# Altium integrated library Capacitor - Aluminium TH.IntLib: 4591 symbols (part 52 of 68)
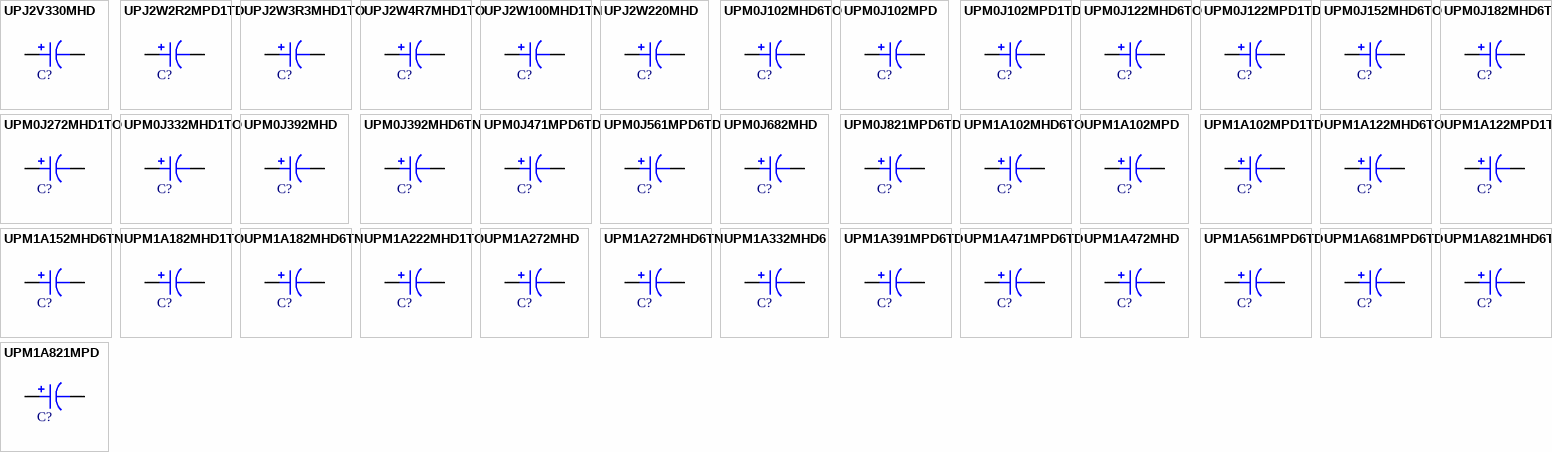
[diagram p165: symbols UPJ2V330MHD to UPM1A821MPD]

## UPM1A272MHD
designator C?, comment 2700uF  (value not drawn)
CAP ALUM 2700UF 20% 10V RADIAL; Part Number: UPM1A272MHD; Manufacturer: Nichicon; TemperatureRange: -55C ~ 105C; Type: Polar; Ripple Current: 1.78A @ 120Hz; Impedance: 30 mOhm; Value: 2700uF; PartId: 24271; Supplier 1: Digi-Key; Supplier Part Number 1: 493-5587-ND; ComponentLink1Description: Datasheet; ComponentLink1URL: http://nichicon-us.com/english/products/pdfs/e-upm.pdf; ComponentLink2Description: Digi-Key Listing; ComponentLink2URL: https://www.digikey.com/product-detail/en/nichicon/UPM1A272MHD/493-5587-ND/2599505; Tolerance: 20%; Voltage: 10V; Price: 1.06; Device Package: Radial, Can, 12.5mm
footprint CAP AL TH D12.5 L5 H35.5
pins: 1, 2

## UPM1A272MHD6TN
designator C?, comment 2700uF  (value not drawn)
CAP ALUM 2700UF 20% 10V RADIAL; Part Number: UPM1A272MHD6TN; Manufacturer: Nichicon; TemperatureRange: -55C ~ 105C; Type: Polar; Ripple Current: 1.56A @ 120Hz; Impedance: 35 mOhm; Value: 2700uF; PartId: 26352; Supplier 1: Digi-Key; Supplier Part Number 1: 493-5205-3-ND; ComponentLink1Description: Datasheet; ComponentLink1URL: http://nichicon-us.com/english/products/pdfs/e-upm.pdf; ComponentLink2Description: Digi-Key Listing; ComponentLink2URL: https://www.digikey.com/product-detail/en/nichicon/UPM1A272MHD6TN/493-5205-3-ND/3130210; Tolerance: 20%; Voltage: 10V; Price: 0.5061; Device Package: Radial, Can, 16mm
footprint CAP AL TH D16 L7.5 H22
pins: 1, 2

## UPM1A332MHD6
designator C?, comment 3300uF  (value not drawn)
CAP ALUM 3300UF 20% 10V RADIAL; Part Number: UPM1A332MHD6; Manufacturer: Nichicon; TemperatureRange: -55C ~ 105C; Type: Polar; Ripple Current: 1.66A @ 120Hz; Impedance: 31 mOhm; Value: 3300uF; PartId: 26417; Supplier 1: Digi-Key; Supplier Part Number 1: UPM1A332MHD6-ND; ComponentLink1Description: Datasheet; ComponentLink1URL: http://nichicon-us.com/english/products/pdfs/e-upm.pdf; ComponentLink2Description: Digi-Key Listing; ComponentLink2URL: https://www.digikey.com/product-detail/en/nichicon/UPM1A332MHD6/UPM1A332MHD6-ND/2428089; Tolerance: 20%; Voltage: 10V; Price: 1.1; Device Package: Radial, Can, 16mm
footprint CAP AL TH D16 L7.5 H22
pins: 1, 2

## UPM1A391MPD6TD
designator C?, comment 390uF  (value not drawn)
CAP ALUM 390UF 20% 10V RADIAL; Part Number: UPM1A391MPD6TD; Manufacturer: Nichicon; TemperatureRange: -55C ~ 105C; Type: Polar; Ripple Current: 490mA @ 120Hz; Impedance: 150 mOhm; Value: 390uF; PartId: 24864; Supplier 1: Digi-Key; Supplier Part Number 1: 493-11773-1-ND; ComponentLink1Description: Datasheet; ComponentLink1URL: http://nichicon-us.com/english/products/pdfs/e-upm.pdf; ComponentLink2Description: Digi-Key Listing; ComponentLink2URL: https://www.digikey.com/product-detail/en/nichicon/UPM1A391MPD6TD/493-11773-1-ND/4319551; Tolerance: 20%; Voltage: 10V; Price: 0.47; Device Package: Radial, Can, 10mm
footprint CAP AL TH D10 L5 H14.5
pins: 1, 2

## UPM1A471MPD6TD
designator C?, comment 470uF  (value not drawn)
CAP ALUM 470UF 20% 10V RADIAL; Part Number: UPM1A471MPD6TD; Manufacturer: Nichicon; TemperatureRange: -55C ~ 105C; Type: Polar; Ripple Current: 535mA @ 120Hz; Impedance: 130 mOhm; Value: 470uF; PartId: 24607; Supplier 1: Digi-Key; Supplier Part Number 1: 493-11885-3-ND; ComponentLink1Description: Datasheet; ComponentLink1URL: http://nichicon-us.com/english/products/pdfs/e-upm.pdf; ComponentLink2Description: Digi-Key Listing; ComponentLink2URL: https://www.digikey.com/product-detail/en/nichicon/UPM1A471MPD6TD/493-11885-3-ND/4321028; Tolerance: 20%; Voltage: 10V; Price: 0.1854; Device Package: Radial, Can, 10mm
footprint CAP AL TH D10 L5 H14.5
pins: 1, 2

## UPM1A472MHD
designator C?, comment 4700uF  (value not drawn)
CAP ALUM 4700UF 20% 10V RADIAL; Part Number: UPM1A472MHD; Manufacturer: Nichicon; TemperatureRange: -55C ~ 105C; Type: Polar; Ripple Current: 2.17A @ 120Hz; Impedance: 23 mOhm; Value: 4700uF; PartId: 27047; Supplier 1: Digi-Key; Supplier Part Number 1: 493-5590-ND; ComponentLink1Description: Datasheet; ComponentLink1URL: http://nichicon-us.com/english/products/pdfs/e-upm.pdf; ComponentLink2Description: Digi-Key Listing; ComponentLink2URL: https://www.digikey.com/product-detail/en/nichicon/UPM1A472MHD/493-5590-ND/2599515; Tolerance: 20%; Voltage: 10V; Price: 1.55; Device Package: Radial, Can, 16mm
footprint CAP AL TH D16 L7.5 H33.5
pins: 1, 2

## UPM1A561MPD6TD
designator C?, comment 560uF  (value not drawn)
CAP ALUM 560UF 20% 10V RADIAL; Part Number: UPM1A561MPD6TD; Manufacturer: Nichicon; TemperatureRange: -55C ~ 105C; Type: Polar; Ripple Current: 570mA @ 120Hz; Impedance: 110 mOhm; Value: 560uF; PartId: 25041; Supplier 1: Digi-Key; Supplier Part Number 1: 493-5210-3-ND; ComponentLink1Description: Datasheet; ComponentLink1URL: http://nichicon-us.com/english/products/pdfs/e-upm.pdf; ComponentLink2Description: Digi-Key Listing; ComponentLink2URL: https://www.digikey.com/product-detail/en/nichicon/UPM1A561MPD6TD/493-5210-3-ND/3130215; Tolerance: 20%; Voltage: 10V; Price: 0.1864; Device Package: Radial, Can, 10mm
footprint CAP AL TH D10 L5 H17.5
pins: 1, 2

## UPM1A681MPD6TD
designator C?, comment 680uF  (value not drawn)
CAP ALUM 680UF 20% 10V RADIAL; Part Number: UPM1A681MPD6TD; Manufacturer: Nichicon; TemperatureRange: -55C ~ 105C; Type: Polar; Ripple Current: 685mA @ 120Hz; Impedance: 90 mOhm; Value: 680uF; PartId: 25010; Supplier 1: Digi-Key; Supplier Part Number 1: 493-5213-3-ND; ComponentLink1Description: Datasheet; ComponentLink1URL: http://nichicon-us.com/english/products/pdfs/e-upm.pdf; ComponentLink2Description: Digi-Key Listing; ComponentLink2URL: https://www.digikey.com/product-detail/en/nichicon/UPM1A681MPD6TD/493-5213-3-ND/3130218; Tolerance: 20%; Voltage: 10V; Price: 0.156; Device Package: Radial, Can, 10mm
footprint CAP AL TH D10 L5 H17.5
pins: 1, 2

## UPM1A821MHD6TO
designator C?, comment 820uF  (value not drawn)
CAP ALUM 820UF 20% 10V RADIAL; Part Number: UPM1A821MHD6TO; Manufacturer: Nichicon; TemperatureRange: -55C ~ 105C; Type: Polar; Ripple Current: 780mA @ 120Hz; Impedance: 80 mOhm; Value: 820uF; PartId: 22815; Supplier 1: Digi-Key; Supplier Part Number 1: 493-5215-1-ND; ComponentLink1Description: Datasheet; ComponentLink1URL: http://nichicon-us.com/english/products/pdfs/e-upm.pdf; ComponentLink2Description: Digi-Key Listing; ComponentLink2URL: https://www.digikey.com/product-detail/en/nichicon/UPM1A821MHD6TO/493-5215-1-ND/3129552; Tolerance: 20%; Voltage: 10V; Price: 0; Device Package: Radial, Can, 12.5mm
footprint CAP AL TH D12.5 L5 H17.5
pins: 1, 2

## UPM1A821MPD
designator C?, comment 820uF  (value not drawn)
CAP ALUM 820UF 20% 10V RADIAL; Part Number: UPM1A821MPD; Manufacturer: Nichicon; TemperatureRange: -55C ~ 105C; Type: Polar; Ripple Current: 835mA @ 120Hz; Impedance: 70 mOhm; Value: 820uF; PartId: 25925; Supplier 1: Digi-Key; Supplier Part Number 1: 493-14374-ND; ComponentLink1Description: Datasheet; ComponentLink1URL: http://nichicon-us.com/english/products/pdfs/e-upm.pdf; ComponentLink2Description: Digi-Key Listing; ComponentLink2URL: https://www.digikey.com/product-detail/en/nichicon/UPM1A821MPD/493-14374-ND/2599528; Tolerance: 20%; Voltage: 10V; Price: 0.72; Device Package: Radial, Can, 10mm
footprint CAP AL TH D10 L5 H22
pins: 1, 2

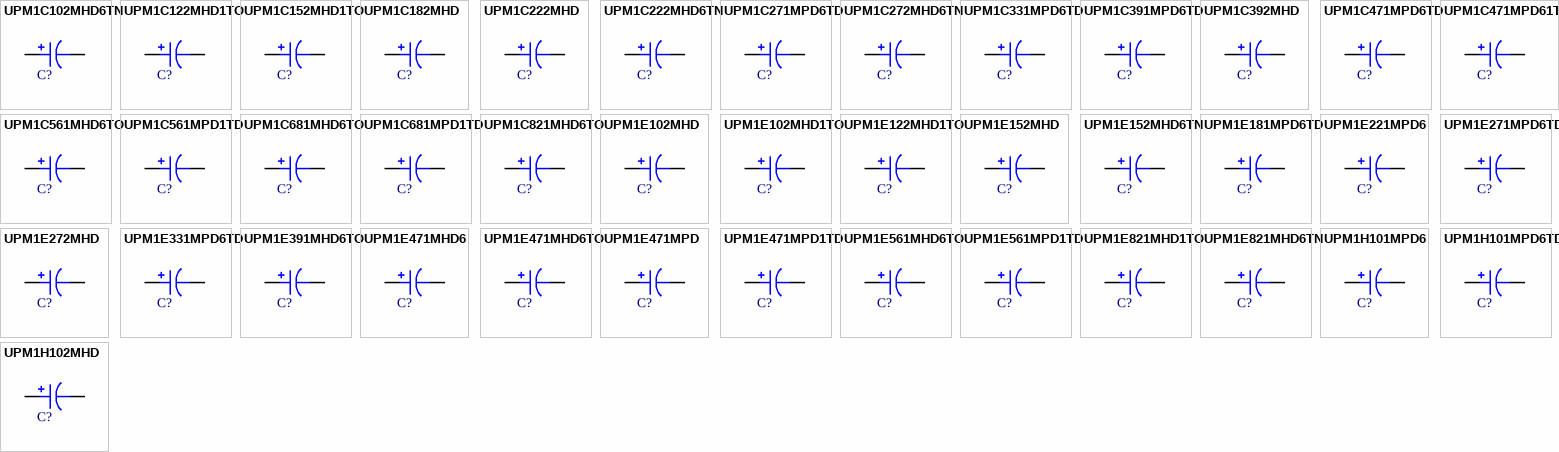
[diagram p86: symbols UPM1C102MHD6TN to UPM1H102MHD]

## UPM1C102MHD6TN
designator C?, comment 1000uF  (value not drawn)
CAP ALUM 1000UF 20% 16V RADIAL; Part Number: UPM1C102MHD6TN; Manufacturer: Nichicon; TemperatureRange: -55C ~ 105C; Type: Polar; Ripple Current: 1.1A @ 120Hz; Impedance: 55 mOhm; Value: 1000uF; PartId: 26246; Supplier 1: Digi-Key; Supplier Part Number 1: 493-12170-3-ND; ComponentLink1Description: Datasheet; ComponentLink1URL: http://nichicon-us.com/english/products/pdfs/e-upm.pdf; ComponentLink2Description: Digi-Key Listing; ComponentLink2URL: https://www.digikey.com/product-detail/en/nichicon/UPM1C102MHD6TN/493-12170-3-ND/4321313; Tolerance: 20%; Voltage: 16V; Price: 0.5056; Device Package: Radial, Can, 16mm
footprint CAP AL TH D16 L7.5 H16.5
pins: 1, 2

## UPM1C122MHD1TO
designator C?, comment 1200uF  (value not drawn)
CAP ALUM 1200UF 20% 16V RADIAL; Part Number: UPM1C122MHD1TO; Manufacturer: Nichicon; TemperatureRange: -55C ~ 105C; Type: Polar; Ripple Current: 1.25A @ 120Hz; Impedance: 41 mOhm; Value: 1200uF; PartId: 23156; Supplier 1: Digi-Key; Supplier Part Number 1: 493-5216-3-ND; ComponentLink1Description: Datasheet; ComponentLink1URL: http://nichicon-us.com/english/products/pdfs/e-upm.pdf; ComponentLink2Description: Digi-Key Listing; ComponentLink2URL: https://www.digikey.com/product-detail/en/nichicon/UPM1C122MHD1TO/493-5216-3-ND/3130221; Tolerance: 20%; Voltage: 16V; Price: 0.3119; Device Package: Radial, Can, 12.5mm
footprint CAP AL TH D12.5 L5 H22
pins: 1, 2

## UPM1C152MHD1TO
designator C?, comment 1500uF  (value not drawn)
CAP ALUM 1500UF 20% 16V RADIAL; Part Number: UPM1C152MHD1TO; Manufacturer: Nichicon; TemperatureRange: -55C ~ 105C; Type: Polar; Ripple Current: 1.53A @ 120Hz; Impedance: 36 mOhm; Value: 1500uF; PartId: 23918; Supplier 1: Digi-Key; Supplier Part Number 1: 493-12092-1-ND; ComponentLink1Description: Datasheet; ComponentLink1URL: http://nichicon-us.com/english/products/pdfs/e-upm.pdf; ComponentLink2Description: Digi-Key Listing; ComponentLink2URL: https://www.digikey.com/product-detail/en/nichicon/UPM1C152MHD1TO/493-12092-1-ND/4319558; Tolerance: 20%; Voltage: 16V; Price: 0.94; Device Package: Radial, Can, 12.5mm
footprint CAP AL TH D12.5 L5 H27
pins: 1, 2

## UPM1C182MHD
designator C?, comment 1800uF  (value not drawn)
CAP ALUM 1800UF 20% 16V RADIAL; Part Number: UPM1C182MHD; Manufacturer: Nichicon; TemperatureRange: -55C ~ 105C; Type: Polar; Ripple Current: 1.69A @ 120Hz; Impedance: 32 mOhm; Value: 1800uF; PartId: 24257; Supplier 1: Digi-Key; Supplier Part Number 1: 493-5596-ND; ComponentLink1Description: Datasheet; ComponentLink1URL: http://nichicon-us.com/english/products/pdfs/e-upm.pdf; ComponentLink2Description: Digi-Key Listing; ComponentLink2URL: https://www.digikey.com/product-detail/en/nichicon/UPM1C182MHD/493-5596-ND/2599540; Tolerance: 20%; Voltage: 16V; Price: 1.03; Device Package: Radial, Can, 12.5mm
footprint CAP AL TH D12.5 L5 H35.5
pins: 1, 2

## UPM1C222MHD
designator C?, comment 2200uF  (value not drawn)
CAP ALUM 2200UF 20% 16V RADIAL; Part Number: UPM1C222MHD; Manufacturer: Nichicon; TemperatureRange: -55C ~ 105C; Type: Polar; Ripple Current: 1.8A @ 120Hz; Impedance: 28 mOhm; Value: 2200uF; PartId: 24265; Supplier 1: Digi-Key; Supplier Part Number 1: 493-11117-ND; ComponentLink1Description: Datasheet; ComponentLink1URL: http://nichicon-us.com/english/products/pdfs/e-upm.pdf; ComponentLink2Description: Digi-Key Listing; ComponentLink2URL: https://www.digikey.com/product-detail/en/nichicon/UPM1C222MHD/493-11117-ND/2599543; Tolerance: 20%; Voltage: 16V; Price: 1.04; Device Package: Radial, Can, 12.5mm
footprint CAP AL TH D12.5 L5 H35.5
pins: 1, 2

## UPM1C222MHD6TN
designator C?, comment 2200uF  (value not drawn)
CAP ALUM 2200UF 20% 16V RADIAL; Part Number: UPM1C222MHD6TN; Manufacturer: Nichicon; TemperatureRange: -55C ~ 105C; Type: Polar; Ripple Current: 1.62A @ 120Hz; Impedance: 33 mOhm; Value: 2200uF; PartId: 26369; Supplier 1: Digi-Key; Supplier Part Number 1: 493-5221-3-ND; ComponentLink1Description: Datasheet; ComponentLink1URL: http://nichicon-us.com/english/products/pdfs/e-upm.pdf; ComponentLink2Description: Digi-Key Listing; ComponentLink2URL: https://www.digikey.com/product-detail/en/nichicon/UPM1C222MHD6TN/493-5221-3-ND/3130226; Tolerance: 20%; Voltage: 16V; Price: 0.5728; Device Package: Radial, Can, 16mm
footprint CAP AL TH D16 L7.5 H22
pins: 1, 2

## UPM1C271MPD6TD
designator C?, comment 270uF  (value not drawn)
CAP ALUM 270UF 20% 16V RADIAL; Part Number: UPM1C271MPD6TD; Manufacturer: Nichicon; TemperatureRange: -55C ~ 105C; Type: Polar; Ripple Current: 470mA @ 120Hz; Impedance: 140 mOhm; Value: 270uF; PartId: 24813; Supplier 1: Digi-Key; Supplier Part Number 1: 493-5222-1-ND; ComponentLink1Description: Datasheet; ComponentLink1URL: http://nichicon-us.com/english/products/pdfs/e-upm.pdf; ComponentLink2Description: Digi-Key Listing; ComponentLink2URL: https://www.digikey.com/product-detail/en/nichicon/UPM1C271MPD6TD/493-5222-1-ND/3129559; Tolerance: 20%; Voltage: 16V; Price: 0.45; Device Package: Radial, Can, 10mm
footprint CAP AL TH D10 L5 H14.5
pins: 1, 2

## UPM1C272MHD6TN
designator C?, comment 2700uF  (value not drawn)
CAP ALUM 2700UF 20% 16V RADIAL; Part Number: UPM1C272MHD6TN; Manufacturer: Nichicon; TemperatureRange: -55C ~ 105C; Type: Polar; Ripple Current: 1.97A @ 120Hz; Impedance: 30 mOhm; Value: 2700uF; PartId: 26756; Supplier 1: Digi-Key; Supplier Part Number 1: 493-5223-3-ND; ComponentLink1Description: Datasheet; ComponentLink1URL: http://nichicon-us.com/english/products/pdfs/e-upm.pdf; ComponentLink2Description: Digi-Key Listing; ComponentLink2URL: https://www.digikey.com/product-detail/en/nichicon/UPM1C272MHD6TN/493-5223-3-ND/3130228; Tolerance: 20%; Voltage: 16V; Price: 0.5742; Device Package: Radial, Can, 16mm
footprint CAP AL TH D16 L7.5 H27
pins: 1, 2

## UPM1C331MPD6TD
designator C?, comment 330uF  (value not drawn)
CAP ALUM 330UF 20% 16V RADIAL; Part Number: UPM1C331MPD6TD; Manufacturer: Nichicon; TemperatureRange: -55C ~ 105C; Type: Polar; Ripple Current: 510mA @ 120Hz; Impedance: 120 mOhm; Value: 330uF; PartId: 24526; Supplier 1: Digi-Key; Supplier Part Number 1: 493-11715-3-ND; ComponentLink1Description: Datasheet; ComponentLink1URL: http://nichicon-us.com/english/products/pdfs/e-upm.pdf; ComponentLink2Description: Digi-Key Listing; ComponentLink2URL: https://www.digikey.com/product-detail/en/nichicon/UPM1C331MPD6TD/493-11715-3-ND/4320858; Tolerance: 20%; Voltage: 16V; Price: 0.1417; Device Package: Radial, Can, 10mm
footprint CAP AL TH D10 L5 H14.5
pins: 1, 2

## UPM1C391MPD6TD
designator C?, comment 390uF  (value not drawn)
CAP ALUM 390UF 20% 16V RADIAL; Part Number: UPM1C391MPD6TD; Manufacturer: Nichicon; TemperatureRange: -55C ~ 105C; Type: Polar; Ripple Current: 570mA @ 120Hz; Impedance: 100 mOhm; Value: 390uF; PartId: 25039; Supplier 1: Digi-Key; Supplier Part Number 1: 493-5226-3-ND; ComponentLink1Description: Datasheet; ComponentLink1URL: http://nichicon-us.com/english/products/pdfs/e-upm.pdf; ComponentLink2Description: Digi-Key Listing; ComponentLink2URL: https://www.digikey.com/product-detail/en/nichicon/UPM1C391MPD6TD/493-5226-3-ND/3130231; Tolerance: 20%; Voltage: 16V; Price: 0.1858; Device Package: Radial, Can, 10mm
footprint CAP AL TH D10 L5 H17.5
pins: 1, 2

## UPM1C392MHD
designator C?, comment 3900uF  (value not drawn)
CAP ALUM 3900UF 20% 16V RADIAL; Part Number: UPM1C392MHD; Manufacturer: Nichicon; TemperatureRange: -55C ~ 105C; Type: Polar; Ripple Current: 2.25A @ 120Hz; Impedance: 22 mOhm; Value: 3900uF; PartId: 27143; Supplier 1: Digi-Key; Supplier Part Number 1: 493-5598-ND; ComponentLink1Description: Datasheet; ComponentLink1URL: http://nichicon-us.com/english/products/pdfs/e-upm.pdf; ComponentLink2Description: Digi-Key Listing; ComponentLink2URL: https://www.digikey.com/product-detail/en/nichicon/UPM1C392MHD/493-5598-ND/2599555; Tolerance: 20%; Voltage: 16V; Price: 1.81; Device Package: Radial, Can, 16mm
footprint CAP AL TH D16 L7.5 H33.5
pins: 1, 2

## UPM1C471MPD6TD
designator C?, comment 470uF  (value not drawn)
CAP ALUM 470UF 20% 16V RADIAL; Part Number: UPM1C471MPD6TD; Manufacturer: Nichicon; TemperatureRange: -55C ~ 105C; Type: Polar; Ripple Current: 660mA @ 120Hz; Impedance: 90 mOhm; Value: 470uF; PartId: 24996; Supplier 1: Digi-Key; Supplier Part Number 1: 493-11774-3-ND; ComponentLink1Description: Datasheet; ComponentLink1URL: http://nichicon-us.com/english/products/pdfs/e-upm.pdf; ComponentLink2Description: Digi-Key Listing; ComponentLink2URL: https://www.digikey.com/product-detail/en/nichicon/UPM1C471MPD6TD/493-11774-3-ND/4320917; Tolerance: 20%; Voltage: 16V; Price: 0.1438; Device Package: Radial, Can, 10mm
footprint CAP AL TH D10 L5 H17.5
pins: 1, 2

## UPM1C471MPD61TD
designator C?, comment 470uF  (value not drawn)
CAP ALUM 470UF 20% 16V RADIAL; Part Number: UPM1C471MPD61TD; Manufacturer: Nichicon; TemperatureRange: -55C ~ 105C; Type: Polar; Ripple Current: 660mA @ 120Hz; Impedance: 90 mOhm; Value: 470uF; PartId: 24997; Supplier 1: Digi-Key; Supplier Part Number 1: 493-7392-2-ND; ComponentLink1Description: Datasheet; ComponentLink1URL: http://nichicon-us.com/english/products/pdfs/e-upm.pdf; ComponentLink2Description: Digi-Key Listing; ComponentLink2URL: https://www.digikey.com/product-detail/en/nichicon/UPM1C471MPD61TD/493-7392-2-ND/3768694; Tolerance: 20%; Voltage: 16V; Price: 0.1438; Device Package: Radial, Can, 10mm
footprint CAP AL TH D10 L5 H17.5
pins: 1, 2

## UPM1C561MHD6TO
designator C?, comment 560uF  (value not drawn)
CAP ALUM 560UF 20% 16V RADIAL; Part Number: UPM1C561MHD6TO; Manufacturer: Nichicon; TemperatureRange: -55C ~ 105C; Type: Polar; Ripple Current: 750mA @ 120Hz; Impedance: 80 mOhm; Value: 560uF; PartId: 22797; Supplier 1: Digi-Key; Supplier Part Number 1: 493-5228-1-ND; ComponentLink1Description: Datasheet; ComponentLink1URL: http://nichicon-us.com/english/products/pdfs/e-upm.pdf; ComponentLink2Description: Digi-Key Listing; ComponentLink2URL: https://www.digikey.com/product-detail/en/nichicon/UPM1C561MHD6TO/493-5228-1-ND/3129565; Tolerance: 20%; Voltage: 16V; Price: 0; Device Package: Radial, Can, 12.5mm
footprint CAP AL TH D12.5 L5 H17.5
pins: 1, 2

## UPM1C561MPD1TD
designator C?, comment 560uF  (value not drawn)
CAP ALUM 560UF 20% 16V RADIAL; Part Number: UPM1C561MPD1TD; Manufacturer: Nichicon; TemperatureRange: -55C ~ 105C; Type: Polar; Ripple Current: 775mA @ 120Hz; Impedance: 75 mOhm; Value: 560uF; PartId: 25779; Supplier 1: Digi-Key; Supplier Part Number 1: 493-5229-3-ND; ComponentLink1Description: Datasheet; ComponentLink1URL: http://nichicon-us.com/english/products/pdfs/e-upm.pdf; ComponentLink2Description: Digi-Key Listing; ComponentLink2URL: https://www.digikey.com/product-detail/en/nichicon/UPM1C561MPD1TD/493-5229-3-ND/3130234; Tolerance: 20%; Voltage: 16V; Price: 0.2458; Device Package: Radial, Can, 10mm
footprint CAP AL TH D10 L5 H22
pins: 1, 2

## UPM1C681MHD6TO
designator C?, comment 680uF  (value not drawn)
CAP ALUM 680UF 20% 16V RADIAL; Part Number: UPM1C681MHD6TO; Manufacturer: Nichicon; TemperatureRange: -55C ~ 105C; Type: Polar; Ripple Current: 820mA @ 120Hz; Impedance: 70 mOhm; Value: 680uF; PartId: 22822; Supplier 1: Digi-Key; Supplier Part Number 1: 493-5230-1-ND; ComponentLink1Description: Datasheet; ComponentLink1URL: http://nichicon-us.com/english/products/pdfs/e-upm.pdf; ComponentLink2Description: Digi-Key Listing; ComponentLink2URL: https://www.digikey.com/product-detail/en/nichicon/UPM1C681MHD6TO/493-5230-1-ND/3129567; Tolerance: 20%; Voltage: 16V; Price: 0; Device Package: Radial, Can, 12.5mm
footprint CAP AL TH D12.5 L5 H17.5
pins: 1, 2

## UPM1C681MPD1TD
designator C?, comment 680uF  (value not drawn)
CAP ALUM 680UF 20% 16V RADIAL; Part Number: UPM1C681MPD1TD; Manufacturer: Nichicon; TemperatureRange: -55C ~ 105C; Type: Polar; Ripple Current: 880mA @ 120Hz; Impedance: 65 mOhm; Value: 680uF; PartId: 25753; Supplier 1: Digi-Key; Supplier Part Number 1: 493-11920-3-ND; ComponentLink1Description: Datasheet; ComponentLink1URL: http://nichicon-us.com/english/products/pdfs/e-upm.pdf; ComponentLink2Description: Digi-Key Listing; ComponentLink2URL: https://www.digikey.com/product-detail/en/nichicon/UPM1C681MPD1TD/493-11920-3-ND/4321063; Tolerance: 20%; Voltage: 16V; Price: 0.2026; Device Package: Radial, Can, 10mm
footprint CAP AL TH D10 L5 H22
pins: 1, 2

## UPM1C821MHD6TO
designator C?, comment 820uF  (value not drawn)
CAP ALUM 820UF 20% 16V RADIAL; Part Number: UPM1C821MHD6TO; Manufacturer: Nichicon; TemperatureRange: -55C ~ 105C; Type: Polar; Ripple Current: 900mA @ 120Hz; Impedance: 60 mOhm; Value: 820uF; PartId: 22823; Supplier 1: Digi-Key; Supplier Part Number 1: 493-5232-1-ND; ComponentLink1Description: Datasheet; ComponentLink1URL: http://nichicon-us.com/english/products/pdfs/e-upm.pdf; ComponentLink2Description: Digi-Key Listing; ComponentLink2URL: https://www.digikey.com/product-detail/en/nichicon/UPM1C821MHD6TO/493-5232-1-ND/3129569; Tolerance: 20%; Voltage: 16V; Price: 0; Device Package: Radial, Can, 12.5mm
footprint CAP AL TH D12.5 L5 H17.5
pins: 1, 2

## UPM1E102MHD
designator C?, comment 1000uF  (value not drawn)
CAP ALUM 1000UF 20% 25V RADIAL; Part Number: UPM1E102MHD; Manufacturer: Nichicon; TemperatureRange: -55C ~ 105C; Type: Polar; Ripple Current: 1.47A @ 120Hz; Impedance: 36 mOhm; Value: 1000uF; PartId: 23965; Supplier 1: Digi-Key; Supplier Part Number 1: 493-14505-ND; ComponentLink1Description: Datasheet; ComponentLink1URL: http://nichicon-us.com/english/products/pdfs/e-upm.pdf; ComponentLink2Description: Digi-Key Listing; ComponentLink2URL: https://www.digikey.com/product-detail/en/nichicon/UPM1E102MHD/493-14505-ND/2599575; Tolerance: 20%; Voltage: 25V; Price: 0.99; Device Package: Radial, Can, 12.5mm
footprint CAP AL TH D12.5 L5 H27
pins: 1, 2

## UPM1E102MHD1TO
designator C?, comment 1000uF  (value not drawn)
CAP ALUM 1000UF 20% 25V RADIAL; Part Number: UPM1E102MHD1TO; Manufacturer: Nichicon; TemperatureRange: -55C ~ 105C; Type: Polar; Ripple Current: 1.47A @ 120Hz; Impedance: 36 mOhm; Value: 1000uF; PartId: 24035; Supplier 1: Digi-Key; Supplier Part Number 1: 493-7393-1-ND; ComponentLink1Description: Datasheet; ComponentLink1URL: http://nichicon-us.com/english/products/pdfs/e-upm.pdf; ComponentLink2Description: Digi-Key Listing; ComponentLink2URL: https://www.digikey.com/product-detail/en/nichicon/UPM1E102MHD1TO/493-7393-1-ND/3768695; Tolerance: 20%; Voltage: 25V; Price: 1.11; Device Package: Radial, Can, 12.5mm
footprint CAP AL TH D12.5 L5 H27
pins: 1, 2

## UPM1E122MHD1TO
designator C?, comment 1200uF  (value not drawn)
CAP ALUM 1200UF 20% 25V RADIAL; Part Number: UPM1E122MHD1TO; Manufacturer: Nichicon; TemperatureRange: -55C ~ 105C; Type: Polar; Ripple Current: 1.55A @ 120Hz; Impedance: 32 mOhm; Value: 1200uF; PartId: 23839; Supplier 1: Digi-Key; Supplier Part Number 1: 493-5234-3-ND; ComponentLink1Description: Datasheet; ComponentLink1URL: http://nichicon-us.com/english/products/pdfs/e-upm.pdf; ComponentLink2Description: Digi-Key Listing; ComponentLink2URL: https://www.digikey.com/product-detail/en/nichicon/UPM1E122MHD1TO/493-5234-3-ND/3130239; Tolerance: 20%; Voltage: 25V; Price: 0.4984; Device Package: Radial, Can, 12.5mm
footprint CAP AL TH D12.5 L5 H27
pins: 1, 2

## UPM1E152MHD
designator C?, comment 1500uF  (value not drawn)
CAP ALUM 1500UF 20% 25V RADIAL; Part Number: UPM1E152MHD; Manufacturer: Nichicon; TemperatureRange: -55C ~ 105C; Type: Polar; Ripple Current: 1.78A @ 120Hz; Impedance: 29 mOhm; Value: 1500uF; PartId: 24269; Supplier 1: Digi-Key; Supplier Part Number 1: 493-7339-ND; ComponentLink1Description: Datasheet; ComponentLink1URL: http://nichicon-us.com/english/products/pdfs/e-upm.pdf; ComponentLink2Description: Digi-Key Listing; ComponentLink2URL: https://www.digikey.com/product-detail/en/nichicon/UPM1E152MHD/493-7339-ND/2599581; Tolerance: 20%; Voltage: 25V; Price: 1.06; Device Package: Radial, Can, 12.5mm
footprint CAP AL TH D12.5 L5 H35.5
pins: 1, 2

## UPM1E152MHD6TN
designator C?, comment 1500uF  (value not drawn)
CAP ALUM 1500UF 20% 25V RADIAL; Part Number: UPM1E152MHD6TN; Manufacturer: Nichicon; TemperatureRange: -55C ~ 105C; Type: Polar; Ripple Current: 1.59A @ 120Hz; Impedance: 34 mOhm; Value: 1500uF; PartId: 26374; Supplier 1: Digi-Key; Supplier Part Number 1: 493-7394-3-ND; ComponentLink1Description: Datasheet; ComponentLink1URL: http://nichicon-us.com/english/products/pdfs/e-upm.pdf; ComponentLink2Description: Digi-Key Listing; ComponentLink2URL: https://www.digikey.com/product-detail/en/nichicon/UPM1E152MHD6TN/493-7394-3-ND/3768698; Tolerance: 20%; Voltage: 25V; Price: 0.6232; Device Package: Radial, Can, 16mm
footprint CAP AL TH D16 L7.5 H22
pins: 1, 2

## UPM1E181MPD6TD
designator C?, comment 180uF  (value not drawn)
CAP ALUM 180UF 20% 25V RADIAL; Part Number: UPM1E181MPD6TD; Manufacturer: Nichicon; TemperatureRange: -55C ~ 105C; Type: Polar; Ripple Current: 450mA @ 120Hz; Impedance: 150 mOhm; Value: 180uF; PartId: 24534; Supplier 1: Digi-Key; Supplier Part Number 1: 493-5237-3-ND; ComponentLink1Description: Datasheet; ComponentLink1URL: http://nichicon-us.com/english/products/pdfs/e-upm.pdf; ComponentLink2Description: Digi-Key Listing; ComponentLink2URL: https://www.digikey.com/product-detail/en/nichicon/UPM1E181MPD6TD/493-5237-3-ND/3130242; Tolerance: 20%; Voltage: 25V; Price: 0.145; Device Package: Radial, Can, 10mm
footprint CAP AL TH D10 L5 H14.5
pins: 1, 2

## UPM1E221MPD6
designator C?, comment 220uF  (value not drawn)
CAP ALUM 220UF 20% 25V RADIAL; Part Number: UPM1E221MPD6; Manufacturer: Nichicon; TemperatureRange: -55C ~ 105C; Type: Polar; Ripple Current: 485mA @ 120Hz; Impedance: 130 mOhm; Value: 220uF; PartId: 24844; Supplier 1: Digi-Key; Supplier Part Number 1: UPM1E221MPD6-ND; ComponentLink1Description: Datasheet; ComponentLink1URL: http://nichicon-us.com/english/products/pdfs/e-upm.pdf; ComponentLink2Description: Digi-Key Listing; ComponentLink2URL: https://www.digikey.com/product-detail/en/nichicon/UPM1E221MPD6/UPM1E221MPD6-ND/2599587; Tolerance: 20%; Voltage: 25V; Price: 0.46; Device Package: Radial, Can, 10mm
footprint CAP AL TH D10 L5 H14.5
pins: 1, 2

## UPM1E271MPD6TD
designator C?, comment 270uF  (value not drawn)
CAP ALUM 270UF 20% 25V RADIAL; Part Number: UPM1E271MPD6TD; Manufacturer: Nichicon; TemperatureRange: -55C ~ 105C; Type: Polar; Ripple Current: 525mA @ 120Hz; Impedance: 110 mOhm; Value: 270uF; PartId: 25040; Supplier 1: Digi-Key; Supplier Part Number 1: 493-5239-3-ND; ComponentLink1Description: Datasheet; ComponentLink1URL: http://nichicon-us.com/english/products/pdfs/e-upm.pdf; ComponentLink2Description: Digi-Key Listing; ComponentLink2URL: https://www.digikey.com/product-detail/en/nichicon/UPM1E271MPD6TD/493-5239-3-ND/3130244; Tolerance: 20%; Voltage: 25V; Price: 0.1858; Device Package: Radial, Can, 10mm
footprint CAP AL TH D10 L5 H17.5
pins: 1, 2

## UPM1E272MHD
designator C?, comment 2700uF  (value not drawn)
CAP ALUM 2700UF 20% 25V RADIAL; Part Number: UPM1E272MHD; Manufacturer: Nichicon; TemperatureRange: -55C ~ 105C; Type: Polar; Ripple Current: 2.25A @ 120Hz; Impedance: 22 mOhm; Value: 2700uF; PartId: 27130; Supplier 1: Digi-Key; Supplier Part Number 1: 493-5606-ND; ComponentLink1Description: Datasheet; ComponentLink1URL: http://nichicon-us.com/english/products/pdfs/e-upm.pdf; ComponentLink2Description: Digi-Key Listing; ComponentLink2URL: https://www.digikey.com/product-detail/en/nichicon/UPM1E272MHD/493-5606-ND/2599592; Tolerance: 20%; Voltage: 25V; Price: 1.78; Device Package: Radial, Can, 16mm
footprint CAP AL TH D16 L7.5 H33.5
pins: 1, 2

## UPM1E331MPD6TD
designator C?, comment 330uF  (value not drawn)
CAP ALUM 330UF 20% 25V RADIAL; Part Number: UPM1E331MPD6TD; Manufacturer: Nichicon; TemperatureRange: -55C ~ 105C; Type: Polar; Ripple Current: 630mA @ 120Hz; Impedance: 95 mOhm; Value: 330uF; PartId: 25019; Supplier 1: Digi-Key; Supplier Part Number 1: 493-11837-3-ND; ComponentLink1Description: Datasheet; ComponentLink1URL: http://nichicon-us.com/english/products/pdfs/e-upm.pdf; ComponentLink2Description: Digi-Key Listing; ComponentLink2URL: https://www.digikey.com/product-detail/en/nichicon/UPM1E331MPD6TD/493-11837-3-ND/4320980; Tolerance: 20%; Voltage: 25V; Price: 0.1614; Device Package: Radial, Can, 10mm
footprint CAP AL TH D10 L5 H17.5
pins: 1, 2

## UPM1E391MHD6TO
designator C?, comment 390uF  (value not drawn)
CAP ALUM 390UF 20% 25V RADIAL; Part Number: UPM1E391MHD6TO; Manufacturer: Nichicon; TemperatureRange: -55C ~ 105C; Type: Polar; Ripple Current: 720mA @ 120Hz; Impedance: 80 mOhm; Value: 390uF; PartId: 22798; Supplier 1: Digi-Key; Supplier Part Number 1: 493-5242-1-ND; ComponentLink1Description: Datasheet; ComponentLink1URL: http://nichicon-us.com/english/products/pdfs/e-upm.pdf; ComponentLink2Description: Digi-Key Listing; ComponentLink2URL: https://www.digikey.com/product-detail/en/nichicon/UPM1E391MHD6TO/493-5242-1-ND/3129579; Tolerance: 20%; Voltage: 25V; Price: 0; Device Package: Radial, Can, 12.5mm
footprint CAP AL TH D12.5 L5 H17.5
pins: 1, 2

## UPM1E471MHD6
designator C?, comment 470uF  (value not drawn)
CAP ALUM 470UF 20% 25V RADIAL; Part Number: UPM1E471MHD6; Manufacturer: Nichicon; TemperatureRange: -55C ~ 105C; Type: Polar; Ripple Current: 785mA @ 120Hz; Impedance: 70 mOhm; Value: 470uF; PartId: 22793; Supplier 1: Digi-Key; Supplier Part Number 1: UPM1E471MHD6-ND; ComponentLink1Description: Datasheet; ComponentLink1URL: http://nichicon-us.com/english/products/pdfs/e-upm.pdf; ComponentLink2Description: Digi-Key Listing; ComponentLink2URL: https://www.digikey.com/product-detail/en/nichicon/UPM1E471MHD6/UPM1E471MHD6-ND/2428084; Tolerance: 20%; Voltage: 25V; Price: 0; Device Package: Radial, Can, 12.5mm
footprint CAP AL TH D12.5 L5 H17.5
pins: 1, 2

## UPM1E471MHD6TO
designator C?, comment 470uF  (value not drawn)
CAP ALUM 470UF 20% 25V RADIAL; Part Number: UPM1E471MHD6TO; Manufacturer: Nichicon; TemperatureRange: -55C ~ 105C; Type: Polar; Ripple Current: 785mA @ 120Hz; Impedance: 70 mOhm; Value: 470uF; PartId: 22799; Supplier 1: Digi-Key; Supplier Part Number 1: 493-12003-1-ND; ComponentLink1Description: Datasheet; ComponentLink1URL: http://nichicon-us.com/english/products/pdfs/e-upm.pdf; ComponentLink2Description: Digi-Key Listing; ComponentLink2URL: https://www.digikey.com/product-detail/en/nichicon/UPM1E471MHD6TO/493-12003-1-ND/4319580; Tolerance: 20%; Voltage: 25V; Price: 0; Device Package: Radial, Can, 12.5mm
footprint CAP AL TH D12.5 L5 H17.5
pins: 1, 2

## UPM1E471MPD
designator C?, comment 470uF  (value not drawn)
CAP ALUM 470UF 20% 25V RADIAL; Part Number: UPM1E471MPD; Manufacturer: Nichicon; TemperatureRange: -55C ~ 105C; Type: Polar; Ripple Current: 845mA @ 120Hz; Impedance: 65 mOhm; Value: 470uF; PartId: 25860; Supplier 1: Digi-Key; Supplier Part Number 1: UPM1E471MPD-ND; ComponentLink1Description: Datasheet; ComponentLink1URL: http://nichicon-us.com/english/products/pdfs/e-upm.pdf; ComponentLink2Description: Digi-Key Listing; ComponentLink2URL: https://www.digikey.com/product-detail/en/nichicon/UPM1E471MPD/UPM1E471MPD-ND/2428083; Tolerance: 20%; Voltage: 25V; Price: 0.6; Device Package: Radial, Can, 10mm
footprint CAP AL TH D10 L5 H22
pins: 1, 2

## UPM1E471MPD1TD
designator C?, comment 470uF  (value not drawn)
CAP ALUM 470UF 20% 25V RADIAL; Part Number: UPM1E471MPD1TD; Manufacturer: Nichicon; TemperatureRange: -55C ~ 105C; Type: Polar; Ripple Current: 845mA @ 120Hz; Impedance: 65 mOhm; Value: 470uF; PartId: 25758; Supplier 1: Digi-Key; Supplier Part Number 1: 493-11930-3-ND; ComponentLink1Description: Datasheet; ComponentLink1URL: http://nichicon-us.com/english/products/pdfs/e-upm.pdf; ComponentLink2Description: Digi-Key Listing; ComponentLink2URL: https://www.digikey.com/product-detail/en/nichicon/UPM1E471MPD1TD/493-11930-3-ND/4321073; Tolerance: 20%; Voltage: 25V; Price: 0.208; Device Package: Radial, Can, 10mm
footprint CAP AL TH D10 L5 H22
pins: 1, 2

## UPM1E561MHD6TO
designator C?, comment 560uF  (value not drawn)
CAP ALUM 560UF 20% 25V RADIAL; Part Number: UPM1E561MHD6TO; Manufacturer: Nichicon; TemperatureRange: -55C ~ 105C; Type: Polar; Ripple Current: 860mA @ 120Hz; Impedance: 60 mOhm; Value: 560uF; PartId: 22803; Supplier 1: Digi-Key; Supplier Part Number 1: 493-12002-1-ND; ComponentLink1Description: Datasheet; ComponentLink1URL: http://nichicon-us.com/english/products/pdfs/e-upm.pdf; ComponentLink2Description: Digi-Key Listing; ComponentLink2URL: https://www.digikey.com/product-detail/en/nichicon/UPM1E561MHD6TO/493-12002-1-ND/4319582; Tolerance: 20%; Voltage: 25V; Price: 0; Device Package: Radial, Can, 12.5mm
footprint CAP AL TH D12.5 L5 H17.5
pins: 1, 2

## UPM1E561MPD1TD
designator C?, comment 560uF  (value not drawn)
CAP ALUM 560UF 20% 25V RADIAL; Part Number: UPM1E561MPD1TD; Manufacturer: Nichicon; TemperatureRange: -55C ~ 105C; Type: Polar; Ripple Current: 1.03A @ 120Hz; Impedance: 55 mOhm; Value: 560uF; PartId: 26007; Supplier 1: Digi-Key; Supplier Part Number 1: 493-5245-3-ND; ComponentLink1Description: Datasheet; ComponentLink1URL: http://nichicon-us.com/english/products/pdfs/e-upm.pdf; ComponentLink2Description: Digi-Key Listing; ComponentLink2URL: https://www.digikey.com/product-detail/en/nichicon/UPM1E561MPD1TD/493-5245-3-ND/3130250; Tolerance: 20%; Voltage: 25V; Price: 0.2705; Device Package: Radial, Can, 10mm
footprint CAP AL TH D10 L5 H30
pins: 1, 2

## UPM1E821MHD1TO
designator C?, comment 820uF  (value not drawn)
CAP ALUM 820UF 20% 25V RADIAL; Part Number: UPM1E821MHD1TO; Manufacturer: Nichicon; TemperatureRange: -55C ~ 105C; Type: Polar; Ripple Current: 1.22A @ 120Hz; Impedance: 41 mOhm; Value: 820uF; PartId: 23182; Supplier 1: Digi-Key; Supplier Part Number 1: 493-7395-2-ND; ComponentLink1Description: Datasheet; ComponentLink1URL: http://nichicon-us.com/english/products/pdfs/e-upm.pdf; ComponentLink2Description: Digi-Key Listing; ComponentLink2URL: https://www.digikey.com/product-detail/en/nichicon/UPM1E821MHD1TO/493-7395-2-ND/3768700; Tolerance: 20%; Voltage: 25V; Price: 0.385; Device Package: Radial, Can, 12.5mm
footprint CAP AL TH D12.5 L5 H22
pins: 1, 2

## UPM1E821MHD6TN
designator C?, comment 820uF  (value not drawn)
CAP ALUM 820UF 20% 25V RADIAL; Part Number: UPM1E821MHD6TN; Manufacturer: Nichicon; TemperatureRange: -55C ~ 105C; Type: Polar; Ripple Current: 1.14A @ 120Hz; Impedance: 49 mOhm; Value: 820uF; PartId: 26276; Supplier 1: Digi-Key; Supplier Part Number 1: 493-12256-3-ND; ComponentLink1Description: Datasheet; ComponentLink1URL: http://nichicon-us.com/english/products/pdfs/e-upm.pdf; ComponentLink2Description: Digi-Key Listing; ComponentLink2URL: https://www.digikey.com/product-detail/en/nichicon/UPM1E821MHD6TN/493-12256-3-ND/4321399; Tolerance: 20%; Voltage: 25V; Price: 0.584; Device Package: Radial, Can, 16mm
footprint CAP AL TH D16 L7.5 H20
pins: 1, 2

## UPM1H101MPD6
designator C?, comment 100uF  (value not drawn)
CAP ALUM 100UF 20% 50V RADIAL; Part Number: UPM1H101MPD6; Manufacturer: Nichicon; TemperatureRange: -55C ~ 105C; Type: Polar; Ripple Current: 385mA @ 120Hz; Impedance: 160 mOhm; Value: 100uF; PartId: 25292; Supplier 1: Digi-Key; Supplier Part Number 1: UPM1H101MPD6-ND; ComponentLink1Description: Datasheet; ComponentLink1URL: http://nichicon-us.com/english/products/pdfs/e-upm.pdf; ComponentLink2Description: Digi-Key Listing; ComponentLink2URL: https://www.digikey.com/product-detail/en/nichicon/UPM1H101MPD6/UPM1H101MPD6-ND/2428081; Tolerance: 20%; Voltage: 50V; Price: 0.63; Device Package: Radial, Can, 10mm
footprint CAP AL TH D10 L5 H17.5
pins: 1, 2

## UPM1H101MPD6TD
designator C?, comment 100uF  (value not drawn)
CAP ALUM 100UF 20% 50V RADIAL; Part Number: UPM1H101MPD6TD; Manufacturer: Nichicon; TemperatureRange: -55C ~ 105C; Type: Polar; Ripple Current: 385mA @ 120Hz; Impedance: 160 mOhm; Value: 100uF; PartId: 25058; Supplier 1: Digi-Key; Supplier Part Number 1: 493-11945-3-ND; ComponentLink1Description: Datasheet; ComponentLink1URL: http://nichicon-us.com/english/products/pdfs/e-upm.pdf; ComponentLink2Description: Digi-Key Listing; ComponentLink2URL: https://www.digikey.com/product-detail/en/nichicon/UPM1H101MPD6TD/493-11945-3-ND/4321088; Tolerance: 20%; Voltage: 50V; Price: 0.2172; Device Package: Radial, Can, 10mm
footprint CAP AL TH D10 L5 H17.5
pins: 1, 2

## UPM1H102MHD
designator C?, comment 1000uF  (value not drawn)
CAP ALUM 1000UF 20% 50V RADIAL; Part Number: UPM1H102MHD; Manufacturer: Nichicon; TemperatureRange: -55C ~ 105C; Type: Polar; Ripple Current: 1.86A @ 120Hz; Impedance: 30 mOhm; Value: 1000uF; PartId: 27018; Supplier 1: Digi-Key; Supplier Part Number 1: 493-7341-ND; ComponentLink1Description: Datasheet; ComponentLink1URL: http://nichicon-us.com/english/products/pdfs/e-upm.pdf; ComponentLink2Description: Digi-Key Listing; ComponentLink2URL: https://www.digikey.com/product-detail/en/nichicon/UPM1H102MHD/493-7341-ND/2470126; Tolerance: 20%; Voltage: 50V; Price: 1.43; Device Package: Radial, Can, 16mm
footprint CAP AL TH D16 L7.5 H33.5
pins: 1, 2

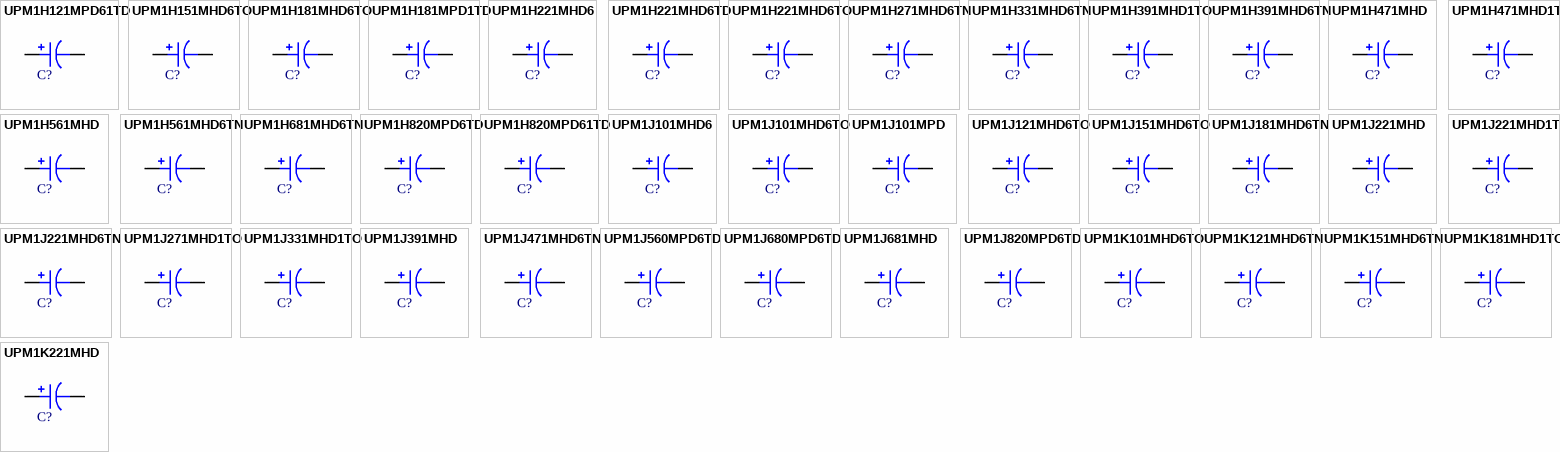
[diagram p87: symbols UPM1H121MPD61TD to UPM1K221MHD]

## UPM1H121MPD61TD
designator C?, comment 120uF  (value not drawn)
CAP ALUM 120UF 20% 50V RADIAL; Part Number: UPM1H121MPD61TD; Manufacturer: Nichicon; TemperatureRange: -55C ~ 105C; Type: Polar; Ripple Current: 510mA @ 120Hz; Impedance: 130 mOhm; Value: 120uF; PartId: 25070; Supplier 1: Digi-Key; Supplier Part Number 1: 493-7396-2-ND; ComponentLink1Description: Datasheet; ComponentLink1URL: http://nichicon-us.com/english/products/pdfs/e-upm.pdf; ComponentLink2Description: Digi-Key Listing; ComponentLink2URL: https://www.digikey.com/product-detail/en/nichicon/UPM1H121MPD61TD/493-7396-2-ND/3768702; Tolerance: 20%; Voltage: 50V; Price: 0.2304; Device Package: Radial, Can, 10mm
footprint CAP AL TH D10 L5 H17.5
pins: 1, 2

## UPM1H151MHD6TO
designator C?, comment 150uF  (value not drawn)
CAP ALUM 150UF 20% 50V RADIAL; Part Number: UPM1H151MHD6TO; Manufacturer: Nichicon; TemperatureRange: -55C ~ 105C; Type: Polar; Ripple Current: 545mA @ 120Hz; Impedance: 110 mOhm; Value: 150uF; PartId: 22795; Supplier 1: Digi-Key; Supplier Part Number 1: 493-5247-1-ND; ComponentLink1Description: Datasheet; ComponentLink1URL: http://nichicon-us.com/english/products/pdfs/e-upm.pdf; ComponentLink2Description: Digi-Key Listing; ComponentLink2URL: https://www.digikey.com/product-detail/en/nichicon/UPM1H151MHD6TO/493-5247-1-ND/3129584; Tolerance: 20%; Voltage: 50V; Price: 0; Device Package: Radial, Can, 12.5mm
footprint CAP AL TH D12.5 L5 H17.5
pins: 1, 2

## UPM1H181MHD6TO
designator C?, comment 180uF  (value not drawn)
CAP ALUM 180UF 20% 50V RADIAL; Part Number: UPM1H181MHD6TO; Manufacturer: Nichicon; TemperatureRange: -55C ~ 105C; Type: Polar; Ripple Current: 605mA @ 120Hz; Impedance: 95 mOhm; Value: 180uF; PartId: 22796; Supplier 1: Digi-Key; Supplier Part Number 1: 493-11996-1-ND; ComponentLink1Description: Datasheet; ComponentLink1URL: http://nichicon-us.com/english/products/pdfs/e-upm.pdf; ComponentLink2Description: Digi-Key Listing; ComponentLink2URL: https://www.digikey.com/product-detail/en/nichicon/UPM1H181MHD6TO/493-11996-1-ND/4319596; Tolerance: 20%; Voltage: 50V; Price: 0; Device Package: Radial, Can, 12.5mm
footprint CAP AL TH D12.5 L5 H17.5
pins: 1, 2

## UPM1H181MPD1TD
designator C?, comment 180uF  (value not drawn)
CAP ALUM 180UF 20% 50V RADIAL; Part Number: UPM1H181MPD1TD; Manufacturer: Nichicon; TemperatureRange: -55C ~ 105C; Type: Polar; Ripple Current: 670mA @ 120Hz; Impedance: 85 mOhm; Value: 180uF; PartId: 25740; Supplier 1: Digi-Key; Supplier Part Number 1: 493-7397-2-ND; ComponentLink1Description: Datasheet; ComponentLink1URL: http://nichicon-us.com/english/products/pdfs/e-upm.pdf; ComponentLink2Description: Digi-Key Listing; ComponentLink2URL: https://www.digikey.com/product-detail/en/nichicon/UPM1H181MPD1TD/493-7397-2-ND/3768704; Tolerance: 20%; Voltage: 50V; Price: 0.1922; Device Package: Radial, Can, 10mm
footprint CAP AL TH D10 L5 H22
pins: 1, 2

## UPM1H221MHD6
designator C?, comment 220uF  (value not drawn)
CAP ALUM 220UF 20% 50V RADIAL; Part Number: UPM1H221MHD6; Manufacturer: Nichicon; TemperatureRange: -55C ~ 105C; Type: Polar; Ripple Current: 670mA @ 120Hz; Impedance: 80 mOhm; Value: 220uF; PartId: 22794; Supplier 1: Digi-Key; Supplier Part Number 1: UPM1H221MHD6-ND; ComponentLink1Description: Datasheet; ComponentLink1URL: http://nichicon-us.com/english/products/pdfs/e-upm.pdf; ComponentLink2Description: Digi-Key Listing; ComponentLink2URL: https://www.digikey.com/product-detail/en/nichicon/UPM1H221MHD6/UPM1H221MHD6-ND/2428080; Tolerance: 20%; Voltage: 50V; Price: 0; Device Package: Radial, Can, 12.5mm
footprint CAP AL TH D12.5 L5 H17.5
pins: 1, 2

## UPM1H221MHD6TD
designator C?, comment 220uF  (value not drawn)
CAP ALUM 220UF 20% 50V RADIAL; Part Number: UPM1H221MHD6TD; Manufacturer: Nichicon; TemperatureRange: -55C ~ 105C; Type: Polar; Ripple Current: 670mA @ 120Hz; Impedance: 80 mOhm; Value: 220uF; PartId: 22802; Supplier 1: Digi-Key; Supplier Part Number 1: 493-14349-1-ND; ComponentLink1Description: Datasheet; ComponentLink1URL: http://nichicon-us.com/english/products/pdfs/e-upm.pdf; ComponentLink2Description: Digi-Key Listing; ComponentLink2URL: https://www.digikey.com/product-detail/en/nichicon/UPM1H221MHD6TD/493-14349-1-ND/5699146; Tolerance: 20%; Voltage: 50V; Price: 0; Device Package: Radial, Can, 12.5mm
footprint CAP AL TH D12.5 L5 H17.5
pins: 1, 2

## UPM1H221MHD6TO
designator C?, comment 220uF  (value not drawn)
CAP ALUM 220UF 20% 50V RADIAL; Part Number: UPM1H221MHD6TO; Manufacturer: Nichicon; TemperatureRange: -55C ~ 105C; Type: Polar; Ripple Current: 670mA @ 120Hz; Impedance: 80 mOhm; Value: 220uF; PartId: 22804; Supplier 1: Digi-Key; Supplier Part Number 1: 493-12009-1-ND; ComponentLink1Description: Datasheet; ComponentLink1URL: http://nichicon-us.com/english/products/pdfs/e-upm.pdf; ComponentLink2Description: Digi-Key Listing; ComponentLink2URL: https://www.digikey.com/product-detail/en/nichicon/UPM1H221MHD6TO/493-12009-1-ND/4319598; Tolerance: 20%; Voltage: 50V; Price: 0; Device Package: Radial, Can, 12.5mm
footprint CAP AL TH D12.5 L5 H17.5
pins: 1, 2

## UPM1H271MHD6TN
designator C?, comment 270uF  (value not drawn)
CAP ALUM 270UF 20% 50V RADIAL; Part Number: UPM1H271MHD6TN; Manufacturer: Nichicon; TemperatureRange: -55C ~ 105C; Type: Polar; Ripple Current: 840mA @ 120Hz; Impedance: 70 mOhm; Value: 270uF; PartId: 26267; Supplier 1: Digi-Key; Supplier Part Number 1: 493-5251-3-ND; ComponentLink1Description: Datasheet; ComponentLink1URL: http://nichicon-us.com/english/products/pdfs/e-upm.pdf; ComponentLink2Description: Digi-Key Listing; ComponentLink2URL: https://www.digikey.com/product-detail/en/nichicon/UPM1H271MHD6TN/493-5251-3-ND/3130256; Tolerance: 20%; Voltage: 50V; Price: 0.4722; Device Package: Radial, Can, 16mm
footprint CAP AL TH D16 L7.5 H20
pins: 1, 2

## UPM1H331MHD6TN
designator C?, comment 330uF  (value not drawn)
CAP ALUM 330UF 20% 50V RADIAL; Part Number: UPM1H331MHD6TN; Manufacturer: Nichicon; TemperatureRange: -55C ~ 105C; Type: Polar; Ripple Current: 925mA @ 120Hz; Impedance: 60 mOhm; Value: 330uF; PartId: 26271; Supplier 1: Digi-Key; Supplier Part Number 1: 493-12237-3-ND; ComponentLink1Description: Datasheet; ComponentLink1URL: http://nichicon-us.com/english/products/pdfs/e-upm.pdf; ComponentLink2Description: Digi-Key Listing; ComponentLink2URL: https://www.digikey.com/product-detail/en/nichicon/UPM1H331MHD6TN/493-12237-3-ND/4321380; Tolerance: 20%; Voltage: 50V; Price: 0.5608; Device Package: Radial, Can, 16mm
footprint CAP AL TH D16 L7.5 H20
pins: 1, 2

## UPM1H391MHD1TO
designator C?, comment 390uF  (value not drawn)
CAP ALUM 390UF 20% 50V RADIAL; Part Number: UPM1H391MHD1TO; Manufacturer: Nichicon; TemperatureRange: -55C ~ 105C; Type: Polar; Ripple Current: 1.12A @ 120Hz; Impedance: 48 mOhm; Value: 390uF; PartId: 23996; Supplier 1: Digi-Key; Supplier Part Number 1: 493-12130-1-ND; ComponentLink1Description: Datasheet; ComponentLink1URL: http://nichicon-us.com/english/products/pdfs/e-upm.pdf; ComponentLink2Description: Digi-Key Listing; ComponentLink2URL: https://www.digikey.com/product-detail/en/nichicon/UPM1H391MHD1TO/493-12130-1-ND/4319603; Tolerance: 20%; Voltage: 50V; Price: 1.04; Device Package: Radial, Can, 12.5mm
footprint CAP AL TH D12.5 L5 H27
pins: 1, 2

## UPM1H391MHD6TN
designator C?, comment 390uF  (value not drawn)
CAP ALUM 390UF 20% 50V RADIAL; Part Number: UPM1H391MHD6TN; Manufacturer: Nichicon; TemperatureRange: -55C ~ 105C; Type: Polar; Ripple Current: 990mA @ 120Hz; Impedance: 55 mOhm; Value: 390uF; PartId: 26272; Supplier 1: Digi-Key; Supplier Part Number 1: 493-5253-3-ND; ComponentLink1Description: Datasheet; ComponentLink1URL: http://nichicon-us.com/english/products/pdfs/e-upm.pdf; ComponentLink2Description: Digi-Key Listing; ComponentLink2URL: https://www.digikey.com/product-detail/en/nichicon/UPM1H391MHD6TN/493-5253-3-ND/3130258; Tolerance: 20%; Voltage: 50V; Price: 0.5652; Device Package: Radial, Can, 16mm
footprint CAP AL TH D16 L7.5 H20
pins: 1, 2

## UPM1H471MHD
designator C?, comment 470uF  (value not drawn)
CAP ALUM 470UF 20% 50V RADIAL; Part Number: UPM1H471MHD; Manufacturer: Nichicon; TemperatureRange: -55C ~ 105C; Type: Polar; Ripple Current: 1.2A @ 120Hz; Impedance: 44 mOhm; Value: 470uF; PartId: 24029; Supplier 1: Digi-Key; Supplier Part Number 1: UPM1H471MHD-ND; ComponentLink1Description: Datasheet; ComponentLink1URL: http://nichicon-us.com/english/products/pdfs/e-upm.pdf; ComponentLink2Description: Digi-Key Listing; ComponentLink2URL: https://www.digikey.com/product-detail/en/nichicon/UPM1H471MHD/UPM1H471MHD-ND/2410927; Tolerance: 20%; Voltage: 50V; Price: 1.09; Device Package: Radial, Can, 12.5mm
footprint CAP AL TH D12.5 L5 H27
pins: 1, 2

## UPM1H471MHD1TO
designator C?, comment 470uF  (value not drawn)
CAP ALUM 470UF 20% 50V RADIAL; Part Number: UPM1H471MHD1TO; Manufacturer: Nichicon; TemperatureRange: -55C ~ 105C; Type: Polar; Ripple Current: 1.2A @ 120Hz; Impedance: 44 mOhm; Value: 470uF; PartId: 24083; Supplier 1: Digi-Key; Supplier Part Number 1: 493-12239-1-ND; ComponentLink1Description: Datasheet; ComponentLink1URL: http://nichicon-us.com/english/products/pdfs/e-upm.pdf; ComponentLink2Description: Digi-Key Listing; ComponentLink2URL: https://www.digikey.com/product-detail/en/nichicon/UPM1H471MHD1TO/493-12239-1-ND/4319606; Tolerance: 20%; Voltage: 50V; Price: 1.22; Device Package: Radial, Can, 12.5mm
footprint CAP AL TH D12.5 L5 H27
pins: 1, 2

## UPM1H561MHD
designator C?, comment 560uF  (value not drawn)
CAP ALUM 560UF 20% 50V RADIAL; Part Number: UPM1H561MHD; Manufacturer: Nichicon; TemperatureRange: -55C ~ 105C; Type: Polar; Ripple Current: 1.41A @ 120Hz; Impedance: 40 mOhm; Value: 560uF; PartId: 24258; Supplier 1: Digi-Key; Supplier Part Number 1: 493-11124-ND; ComponentLink1Description: Datasheet; ComponentLink1URL: http://nichicon-us.com/english/products/pdfs/e-upm.pdf; ComponentLink2Description: Digi-Key Listing; ComponentLink2URL: https://www.digikey.com/product-detail/en/nichicon/UPM1H561MHD/493-11124-ND/2599649; Tolerance: 20%; Voltage: 50V; Price: 1.03; Device Package: Radial, Can, 12.5mm
footprint CAP AL TH D12.5 L5 H35.5
pins: 1, 2

## UPM1H561MHD6TN
designator C?, comment 560uF  (value not drawn)
CAP ALUM 560UF 20% 50V RADIAL; Part Number: UPM1H561MHD6TN; Manufacturer: Nichicon; TemperatureRange: -55C ~ 105C; Type: Polar; Ripple Current: 1.27A @ 120Hz; Impedance: 44 mOhm; Value: 560uF; PartId: 26360; Supplier 1: Digi-Key; Supplier Part Number 1: 493-5254-3-ND; ComponentLink1Description: Datasheet; ComponentLink1URL: http://nichicon-us.com/english/products/pdfs/e-upm.pdf; ComponentLink2Description: Digi-Key Listing; ComponentLink2URL: https://www.digikey.com/product-detail/en/nichicon/UPM1H561MHD6TN/493-5254-3-ND/3130259; Tolerance: 20%; Voltage: 50V; Price: 0.528; Device Package: Radial, Can, 16mm
footprint CAP AL TH D16 L7.5 H22
pins: 1, 2

## UPM1H681MHD6TN
designator C?, comment 680uF  (value not drawn)
CAP ALUM 680UF 20% 50V RADIAL; Part Number: UPM1H681MHD6TN; Manufacturer: Nichicon; TemperatureRange: -55C ~ 105C; Type: Polar; Ripple Current: 1.35A @ 120Hz; Impedance: 40 mOhm; Value: 680uF; PartId: 26370; Supplier 1: Digi-Key; Supplier Part Number 1: 493-12245-3-ND; ComponentLink1Description: Datasheet; ComponentLink1URL: http://nichicon-us.com/english/products/pdfs/e-upm.pdf; ComponentLink2Description: Digi-Key Listing; ComponentLink2URL: https://www.digikey.com/product-detail/en/nichicon/UPM1H681MHD6TN/493-12245-3-ND/4321388; Tolerance: 20%; Voltage: 50V; Price: 0.5736; Device Package: Radial, Can, 16mm
footprint CAP AL TH D16 L7.5 H22
pins: 1, 2

## UPM1H820MPD6TD
designator C?, comment 82uF  (value not drawn)
CAP ALUM 82UF 20% 50V RADIAL; Part Number: UPM1H820MPD6TD; Manufacturer: Nichicon; TemperatureRange: -55C ~ 105C; Type: Polar; Ripple Current: 340mA @ 120Hz; Impedance: 180 mOhm; Value: 82uF; PartId: 24544; Supplier 1: Digi-Key; Supplier Part Number 1: 493-11125-3-ND; ComponentLink1Description: Datasheet; ComponentLink1URL: http://nichicon-us.com/english/products/pdfs/e-upm.pdf; ComponentLink2Description: Digi-Key Listing; ComponentLink2URL: https://www.digikey.com/product-detail/en/nichicon/UPM1H820MPD6TD/493-11125-3-ND/2096112; Tolerance: 20%; Voltage: 50V; Price: 0.148; Device Package: Radial, Can, 10mm
footprint CAP AL TH D10 L5 H14.5
pins: 1, 2

## UPM1H820MPD61TD
designator C?, comment 82uF  (value not drawn)
CAP ALUM 82UF 20% 50V RADIAL; Part Number: UPM1H820MPD61TD; Manufacturer: Nichicon; TemperatureRange: -55C ~ 105C; Type: Polar; Ripple Current: 340mA @ 120Hz; Impedance: 180 mOhm; Value: 82uF; PartId: 24545; Supplier 1: Digi-Key; Supplier Part Number 1: 493-7401-3-ND; ComponentLink1Description: Datasheet; ComponentLink1URL: http://nichicon-us.com/english/products/pdfs/e-upm.pdf; ComponentLink2Description: Digi-Key Listing; ComponentLink2URL: https://www.digikey.com/product-detail/en/nichicon/UPM1H820MPD61TD/493-7401-3-ND/3768712; Tolerance: 20%; Voltage: 50V; Price: 0.148; Device Package: Radial, Can, 10mm
footprint CAP AL TH D10 L5 H14.5
pins: 1, 2